# EAGLE library part LPC-H2148 (library LPC-H2148)
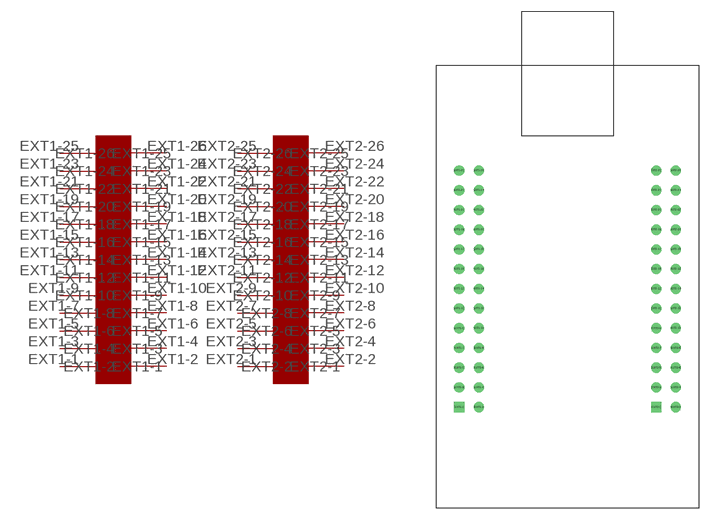
[diagram p0: symbol with the pads of LPC-H2148; footprint LPC-H2148]

Designator prefix -

## LPC-H2148LPC-H2148  [LPC-H2148]
EXT1-1  EXT1-1
EXT1-2  EXT1-2
EXT1-3  EXT1-3
EXT1-4  EXT1-4
EXT1-5  EXT1-5
EXT1-6  EXT1-6
EXT1-7  EXT1-7
EXT1-8  EXT1-8
EXT1-9  EXT1-9
EXT1-10  EXT1-10
EXT1-11  EXT1-11
EXT1-12  EXT1-12
EXT1-13  EXT1-13
EXT1-14  EXT1-14
EXT1-15  EXT1-15
EXT1-16  EXT1-16
EXT1-17  EXT1-17
EXT1-18  EXT1-18
EXT1-19  EXT1-19
EXT1-20  EXT1-20
EXT1-21  EXT1-21
EXT1-22  EXT1-22
EXT1-23  EXT1-23
EXT1-24  EXT1-24
EXT1-25  EXT1-25
EXT1-26  EXT1-26
EXT2-1  EXT2-1
EXT2-2  EXT2-2
EXT2-3  EXT2-3
EXT2-4  EXT2-4
EXT2-5  EXT2-5
EXT2-6  EXT2-6
EXT2-7  EXT2-7
EXT2-8  EXT2-8
EXT2-9  EXT2-9
EXT2-10  EXT2-10
EXT2-11  EXT2-11
EXT2-12  EXT2-12
EXT2-13  EXT2-13
EXT2-14  EXT2-14
EXT2-15  EXT2-15
EXT2-16  EXT2-16
EXT2-17  EXT2-17
EXT2-18  EXT2-18
EXT2-19  EXT2-19
EXT2-20  EXT2-20
EXT2-21  EXT2-21
EXT2-22  EXT2-22
EXT2-23  EXT2-23
EXT2-24  EXT2-24
EXT2-25  EXT2-25
EXT2-26  EXT2-26

## Footprint LPC-H2148 (pad centres in mm)
drill 0.8 square: EXT1-1 0,0; EXT2-1 25.4,0
drill 0.8: EXT1-2 2.54,0; EXT1-3 0,2.54; EXT1-4 2.54,2.54; EXT1-5 0,5.08; EXT1-6 2.54,5.08; EXT1-7 0,7.62; EXT1-8 2.54,7.62; EXT1-9 0,10.16; EXT1-10 2.54,10.16; EXT1-11 0,12.7; EXT1-12 2.54,12.7; EXT1-13 0,15.24; EXT1-14 2.54,15.24; EXT1-15 0,17.78; EXT1-16 2.54,17.78; EXT1-17 0,20.32; EXT1-18 2.54,20.32; EXT1-19 0,22.86; EXT1-20 2.54,22.86; EXT1-21 0,25.4; EXT1-22 2.54,25.4; EXT1-23 0,27.94; EXT1-24 2.54,27.94; EXT1-25 0,30.48; EXT1-26 2.54,30.48; EXT2-2 27.94,0; EXT2-3 25.4,2.54; EXT2-4 27.94,2.54; EXT2-5 25.4,5.08; EXT2-6 27.94,5.08; EXT2-7 25.4,7.62; EXT2-8 27.94,7.62; EXT2-9 25.4,10.16; EXT2-10 27.94,10.16; EXT2-11 25.4,12.7; EXT2-12 27.94,12.7; EXT2-13 25.4,15.24; EXT2-14 27.94,15.24; EXT2-15 25.4,17.78; EXT2-16 27.94,17.78; EXT2-17 25.4,20.32; EXT2-18 27.94,20.32; EXT2-19 25.4,22.86; EXT2-20 27.94,22.86; EXT2-21 25.4,25.4; EXT2-22 27.94,25.4; EXT2-23 25.4,27.94; EXT2-24 27.94,27.94; EXT2-25 25.4,30.48; EXT2-26 27.94,30.48